# Altium schematic symbol library con-faston.SCHLIB: 10 symbols
Pins are listed as number, name and electrical type; pins without a type are passive.

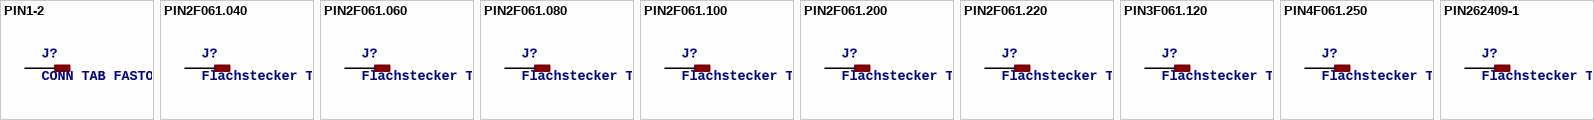
[diagram p0: symbols PIN1-2 to PIN262409-1]

## PIN1-2
designator J?, comment CONN TAB FASTON BRASS .187 PCB   TAB, FSSTON, DUAL STAKE, .187 SERIES Digi-Key Part Number: A24734CT-ND Source: Tyco Electronics Corporation .. ENG_CD_62221_R.pdf http://search.digikey.com/scripts/DkSearch/dksus.dll?Detail&name=A24734CT-ND
MPN: 62221-1; MF: TYCO ELECTRONICS; OC_FARNELL: unknown; OC_NEWARK: 16H2318
footprint 62221
pins: 1

## PIN2F061.040
designator J?, comment Flachstecker Typ Tyco/Electronics/AMP TAB, FASTON   Printed Circuit Board Tabs Source: http://www.buerklin.com, http://catalog.tycoelectronics.com
OC_FARNELL: unknown; OC_NEWARK: unknown
footprint F061.040
pins: A1 A2 1

## PIN2F061.060
designator J?, comment Flachstecker Typ Tyco/Electronics/AMP TAB, FASTON   Printed Circuit Board Tabs Source: http://www.buerklin.com, http://catalog.tycoelectronics.com
OC_FARNELL: unknown; OC_NEWARK: unknown
footprint F061.060
pins: A1 A2 1

## PIN2F061.080
designator J?, comment Flachstecker Typ Tyco/Electronics/AMP TAB, FASTON   Printed Circuit Board Tabs Source: http://www.buerklin.com, http://catalog.tycoelectronics.com
OC_FARNELL: unknown; OC_NEWARK: unknown
footprint F061.080
pins: 1A 1B 1

## PIN2F061.100
designator J?, comment Flachstecker Typ Tyco/Electronics/AMP TAB, FASTON   Printed Circuit Board Tabs Source: http://www.buerklin.com, http://catalog.tycoelectronics.com
OC_FARNELL: unknown; OC_NEWARK: unknown
footprint F061.100
pins: A1 A2 1

## PIN2F061.200
designator J?, comment Flachstecker Typ Tyco/Electronics/AMP TAB, FASTON   Printed Circuit Board Tabs Source: http://www.buerklin.com, http://catalog.tycoelectronics.com
OC_FARNELL: unknown; OC_NEWARK: unknown
footprint F061.200
pins: 1A 1B 1

## PIN2F061.220
designator J?, comment Flachstecker Typ Tyco/Electronics/AMP TAB, FASTON   Printed Circuit Board Tabs Source: http://www.buerklin.com, http://catalog.tycoelectronics.com
OC_FARNELL: unknown; OC_NEWARK: unknown
footprint F061.220
pins: 1A 1B 1

## PIN3F061.120
designator J?, comment Flachstecker Typ tyco/Electronics/AMP   Printed Circuit Board Tabs Source: http://www.buerklin.com
OC_FARNELL: unknown; OC_NEWARK: unknown
footprint F061.120
pins: 1A 1B 1C 1

## PIN4F061.250
designator J?, comment Flachstecker Typ tyco/Electronics/AMP   Printed Circuit Board Tabs Source: http://www.buerklin.com
OC_FARNELL: unknown; OC_NEWARK: unknown
footprint F061.250
pins: 1A 1B 1C 1D 1

## PIN262409-1
designator J?, comment Flachstecker Typ Tyco/Electronics/AMP TAB, FASTON   Printed Circuit Board Tabs Source: http://www.buerklin.com, http://catalog.tycoelectronics.com
OC_FARNELL: unknown; OC_NEWARK: unknown
footprint 62409-1
pins: A1 A2 1